# Altium schematic symbol library IRM-60-24.Schlib: 1 symbol
Pins are listed as number, name and electrical type; pins without a type are passive.

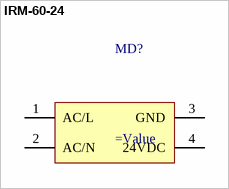
[diagram p0: symbol IRM-60-24]

## IRM-60-24
designator MD?
=Description
pins: 1 AC/L (power), 2 AC/N (power), 3 GND (power), 4 24VDC (power)